# EAGLE library part ACS712 (library mylib)
Fully Integrated, Hall Effect-Based Linear Current Sensor IC
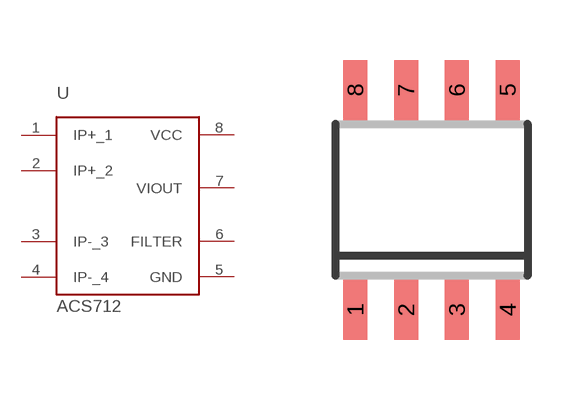
[diagram p0: symbol with the pads of SOIC8; footprint SOIC8]

Designator prefix U

## ACS712  [SOIC8]
1  IP+_1
2  IP+_2
3  IP-_3
4  IP-_4
5  GND  pwr
6  FILTER
7  VIOUT  out
8  VCC  pwr

## Footprint SOIC8 (pad centres in mm)
SOIC-8 CASE 751-07 Source: http://www.onsemi.com/pub/Collateral/MC34164-D.PDF D (R-PDSO-G8)PLATIC SMALL-OUTLINE PACKAGE Source: http://focus.ti.com/lit/ds/symlink/tlc27l2.pdf
smd 0.6 x 1.5: 1 -1.905,-2.75; 2 -0.635,-2.75; 3 0.635,-2.75; 4 1.905,-2.75; 5 1.905,2.75; 6 0.635,2.75; 7 -0.635,2.75; 8 -1.905,2.75